# EAGLE library part M45PE16 (library inklinometer)
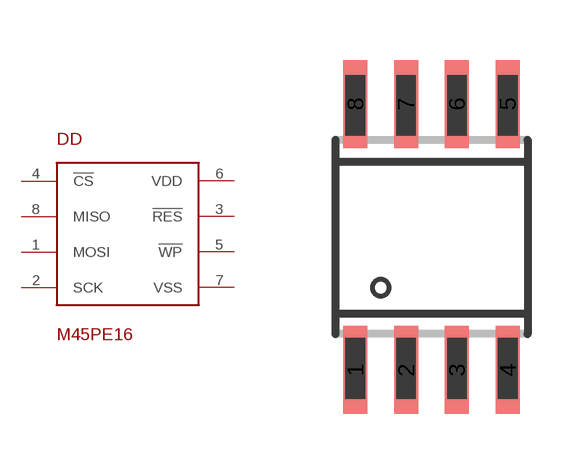
[diagram p2: symbol with the pads of SO-08M; footprint SO-08M]

Designator prefix DD

## M45PE16  [SO-08M]
1  MOSI
2  SCK
3  !RES
4  !CS
5  !WP
6  VDD
7  VSS
8  MISO

## Footprint SO-08M (pad centres in mm)
Small Outline Medium Plastic Gull Wing 207-mil body, package type SM
smd 0.6 x 2.2: 1 -1.905,-3.33; 2 -0.635,-3.33; 3 0.635,-3.33; 4 1.905,-3.33; 5 1.905,3.33; 6 0.635,3.33; 7 -0.635,3.33; 8 -1.905,3.33